# Altium footprint library FQB22P10.PcbLib: 1 footprints
Each footprint in its own frame and in the unit in brackets; x right, y up, seen from the top. Pads: shape width x height; smd on the part's side, far side on the other; paste and mask are expansions set on the pad; w line width, h text height; cw(c..) or ccw(c..) is an arc to the next point about the centre after c.
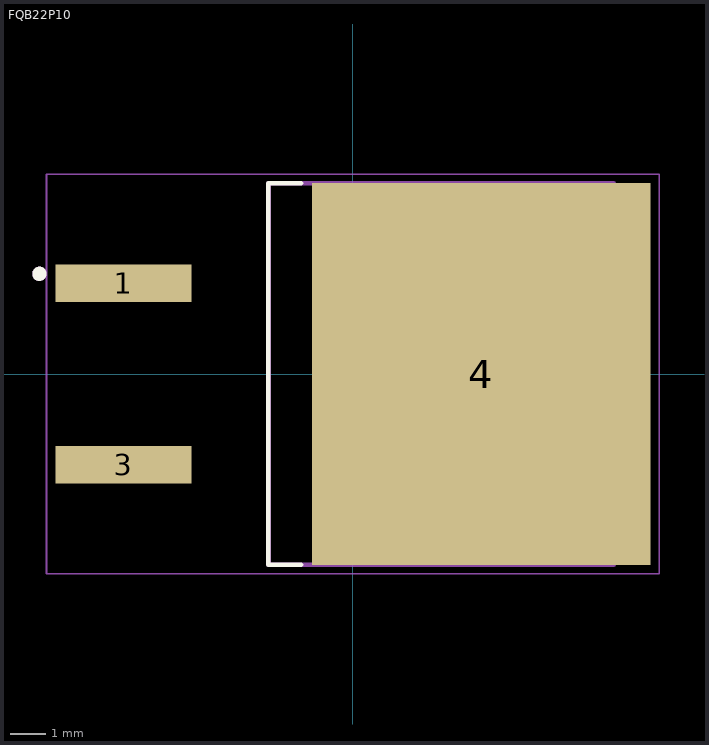
[diagram p0: the footprint, top view; thin cyan lines are the x and y axes]

## FQB22P10 [mm]
pads (3):
  rect 3.8x1.05 smd: 1(-6.412,2.54) 3(-6.412,-2.54)
  rect 9.45x10.67 smd paste-6: 4(3.588,0)
Top Overlay:
  circle w0.2: c-8.762,2.8 r0.1
  lines w0.127: -1.451,-5.335 -2.365,-5.335 -2.365,5.335 -1.451,5.335
Top Paste:
  region: 7.588,-4.75 5.587,-4.75 5.587,-2.25 7.588,-2.25
  region: 4.587,-4.75 2.588,-4.75 2.588,-2.25 4.587,-2.25
  region: 1.587,-4.75 -0.413,-4.75 -0.413,-2.25 1.587,-2.25
  region: 7.588,2.25 5.587,2.25 5.587,4.75 7.588,4.75
  region: 4.587,2.25 2.588,2.25 2.588,4.75 4.587,4.75
  region: 1.587,2.25 -0.413,2.25 -0.413,4.75 1.587,4.75
  region: 7.588,-1.25 5.587,-1.25 5.587,1.25 7.588,1.25
  region: 4.587,-1.25 2.588,-1.25 2.588,1.25 4.587,1.25
  region: 1.587,-1.25 -0.413,-1.25 -0.413,1.25 1.587,1.25
Mechanical 13:
  circle w0.2: c-8.762,2.8 r0.1
  lines w0.127: -2.36,-5.335 -2.36,5.335 7.29,5.335 7.29,-5.335 -2.36,-5.335
Mechanical 15:
  lines w0.05: -8.563,-5.585 -8.563,5.585 8.563,5.585 8.563,-5.585 -8.563,-5.585
3D body "D2PAK-2 L7805.step": height 5.08, standoff 0, extent -7.365,-5 8.259,5